# Altium footprint library CANduino_gyro.PcbLib: 19 footprints (part 1 of 2)
Each footprint in its own frame and in the unit in brackets; x right, y up, seen from the top. Pads: shape width x height; smd on the part's side, far side on the other; paste and mask are expansions set on the pad; w line width, h text height; cw(c..) or ccw(c..) is an arc to the next point about the centre after c.
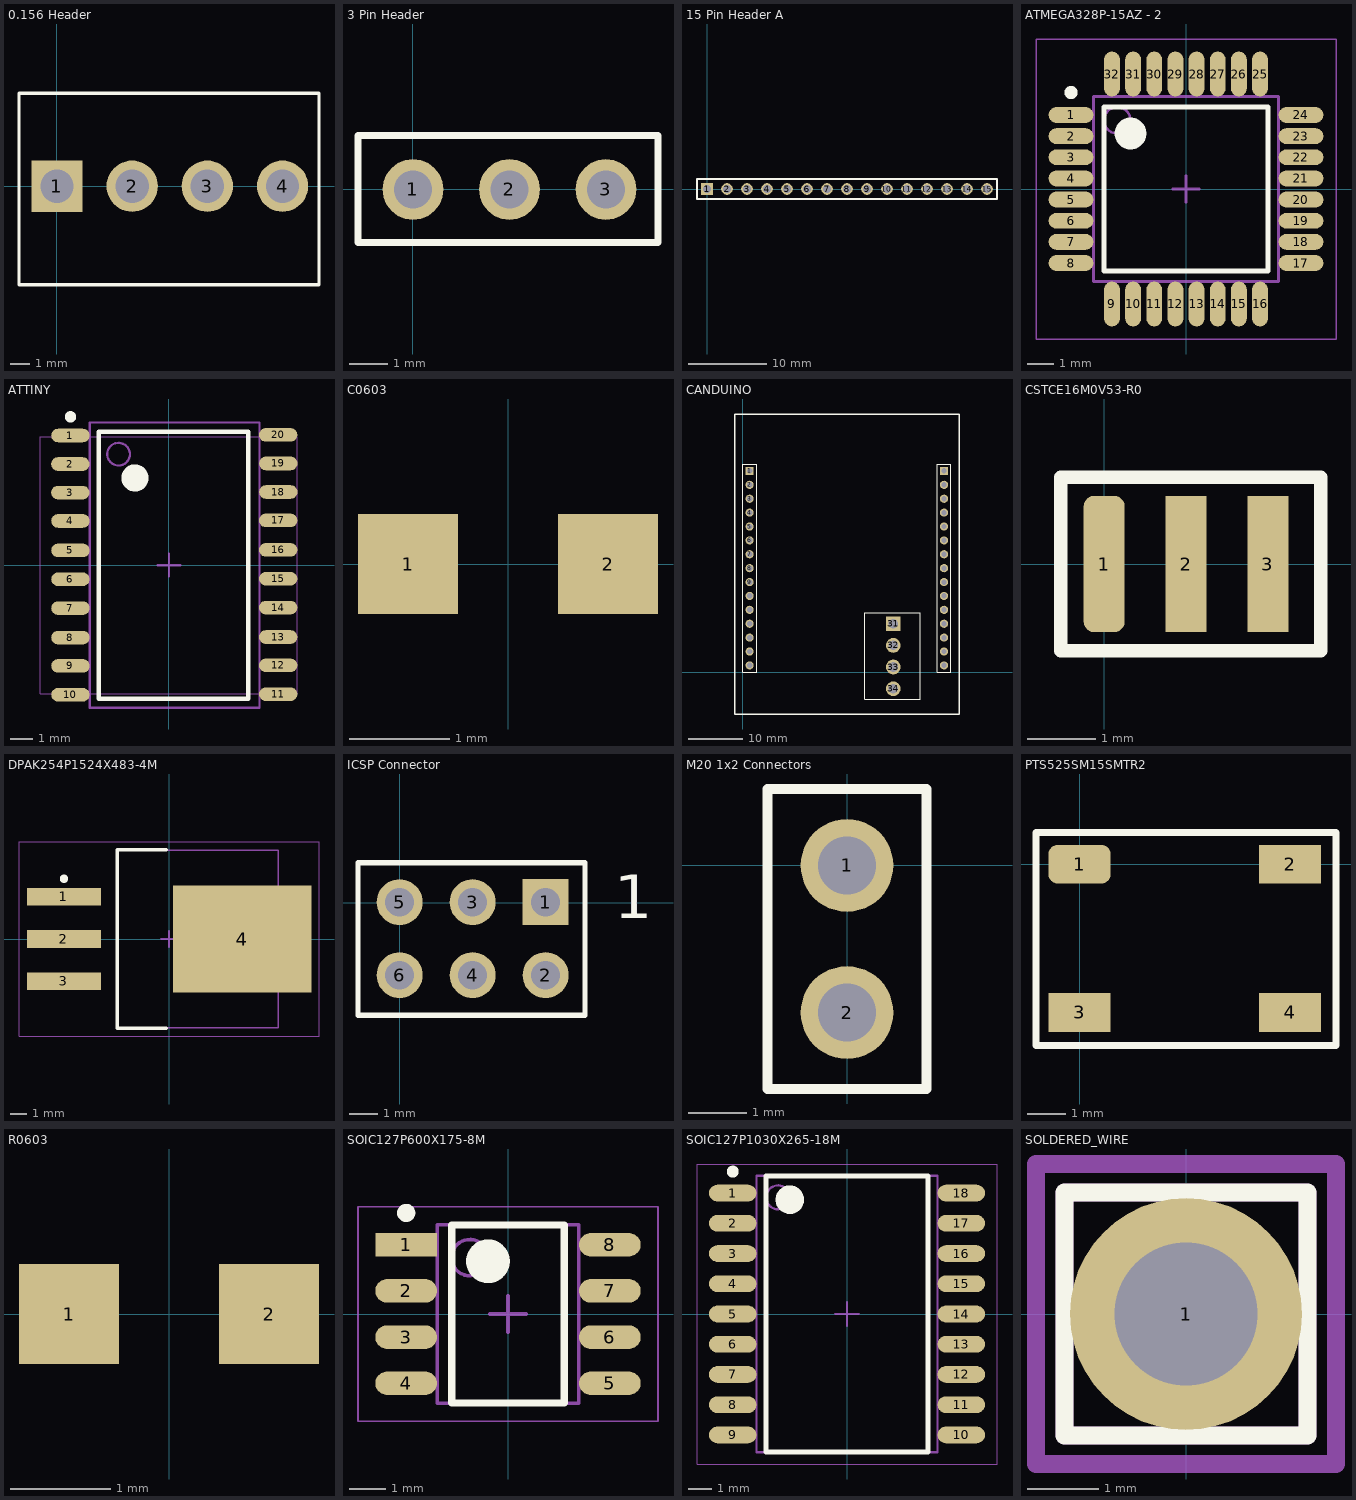
[diagram p0: the footprints below, top view; thin cyan lines are the x and y axes]

## 0.156 Header [mm]
pads (4):
  rect 2.7x2.7 / inner round 1.2 / far side rect 2.7x2.7 hole 1.75: 1(0,0)
  round 2.7 / inner round 1.2 / far side round 2.7 hole 1.75: 2(3.96,0) 3(7.92,0) 4(11.88,0)
Top Overlay:
  lines w0.178: -2,-5.2 -2,4.9 13.8,4.9 13.8,-5.2 -2,-5.2

## 3 Pin Header [mm]
pads (3):
  round 1.6 hole 1: 1(0,0) 2(2.54,0) 3(5.08,0)
Top Overlay:
  lines w0.178: -1.448,-1.397 6.452,-1.397 6.452,1.422 -1.448,1.422 -1.448,-1.397

## 15 Pin Header A [mm] "CANduino IO connections"
pads (15):
  rect 1.5x1.5 hole 1: 1(0,0)
  round 1.5 hole 1: 2(2.54,0) 3(5.08,0) 4(7.62,0) 5(10.16,0) 6(12.7,0) 7(15.24,0) 8(17.78,0) 9(20.32,0) 10(22.86,0) 11(25.4,0) 12(27.94,0) 13(30.48,0) 14(33.02,0) 15(35.56,0)
Top Overlay:
  lines w0.2: -1.27,-1.27 36.83,-1.27 36.83,1.27 0.635,1.27 -1.27,1.27 -1.27,-1.27

## ATMEGA328P-15AZ - 2 [mm] "TQFP, 32-Leads, Body 7.00x7.00mm, Pitch 0.80mm, IPC Low Density"
height 1.2
pads (32):
  oval 1.7x0.6 smd: 1(-4.35,2.8) 2(-4.35,2) 3(-4.35,1.2) 4(-4.35,0.4) 5(-4.35,-0.4) 6(-4.35,-1.2) 7(-4.35,-2) 8(-4.35,-2.8) 17(4.35,-2.8) 18(4.35,-2) 19(4.35,-1.2) 20(4.35,-0.4) 21(4.35,0.4) 22(4.35,1.2) 23(4.35,2) 24(4.35,2.8)
  oval 0.6x1.7 smd: 9(-2.8,-4.35) 10(-2,-4.35) 11(-1.2,-4.35) 12(-0.4,-4.35) 13(0.4,-4.35) 14(1.2,-4.35) 15(2,-4.35) 16(2.8,-4.35) 25(2.8,4.35) 26(2,4.35) 27(1.2,4.35) 28(0.4,4.35) 29(-0.4,4.35) 30(-1.2,4.35) 31(-2,4.35) 32(-2.8,4.35)
Top Overlay:
  circle w0.6: c-2.1,2.1 r0.3
  circle w0.25: c-4.35,3.65 r0.125
  lines w0.2: -3.1,-3.1 3.1,-3.1 3.1,3.1 -3.1,3.1 -3.1,-3.1
Mechanical 13:
  circle w0.1: c-2.6,2.6 r0.5
  lines w0.1: -3.5,-3.5 3.5,-3.5 3.5,3.5 -3.5,3.5 -3.5,-3.5
Mechanical 15:
  lines w0.05: -5.675,-5.675 5.675,-5.675 5.675,5.675 -5.675,5.675 -5.675,-5.675
  lines w0.1: -0.5,0 0.5,0 ; 0,-0.5 0,0.5
3D body: height 1.2, standoff 0.05, extent -3.5,-3.5 3.5,3.5

## ATTINY [mm] "TQFP, 32-Leads, Body 7.00x7.00mm, Pitch 0.80mm, IPC Low Density"
height 1.2
pads (20):
  oval 1.7x0.6 smd: 1(-4.35,5.725) 2(-4.355,4.465) 3(-4.355,3.205) 4(-4.35,1.95) 5(-4.35,0.65) 6(-4.35,-0.625) 7(-4.35,-1.9) 8(-4.35,-3.2) 9(-4.35,-4.45) 10(-4.35,-5.725) 11(4.825,-5.7) 12(4.825,-4.425) 13(4.825,-3.175) 14(4.825,-1.875) 15(4.825,-0.6) 16(4.825,0.675) 17(4.825,1.975) 18(4.83,3.23) 19(4.83,4.49) 20(4.825,5.75)
Top Overlay:
  circle w0.6: c-1.5,3.85 r0.3
  circle w0.25: c-4.35,6.55 r0.125
  lines w0.2: -3.1,-5.9 -3.1,5.9 3.5,5.9 3.5,-5.9 -3.1,-5.9
Mechanical 13:
  circle w0.1: c-2.225,4.9 r0.5
  lines w0.1: -3.5,-6.3 4,-6.3 4,-1.25 4,2.25 4,6.3 -3.5,6.3 -3.5,-6.3
Mechanical 15:
  lines w0.05: -5.675,-5.675 5.675,-5.675 5.675,5.675 -5.675,5.675 -5.675,-5.675
  lines w0.1: -0.5,0 0.5,0 ; 0,-0.5 0,0.5
3D body: height 1.2, standoff 0.05, extent -3.5,-6.3 4,6.3

## C0603 [mm]
pads (2):
  rect 1x1 smd: 1(-1,0) 2(1,0)

## CANDUINO [mm]
pads (34):
  rect 1.5x1.5 hole 1: 1(1.27,36.83) 30(36.83,36.83)
  round 1.5 hole 1: 2(1.27,34.29) 3(1.27,31.75) 4(1.27,29.21) 5(1.27,26.67) 6(1.27,24.13) 7(1.27,21.59) 8(1.27,19.05) 9(1.27,16.51) 10(1.27,13.97) 11(1.27,11.43) 12(1.27,8.89) 13(1.27,6.35) 14(1.27,3.81) 15(1.27,1.27) 16(36.83,1.27) 17(36.83,3.81) 18(36.83,6.35) 19(36.83,8.89) 20(36.83,11.43) 21(36.83,13.97) 22(36.83,16.51) 23(36.83,19.05) 24(36.83,21.59) 25(36.83,24.13) 26(36.83,26.67) 27(36.83,29.21) 28(36.83,31.75) 29(36.83,34.29)
  rect 2.7x2.7 / inner round 1.2 / far side rect 2.7x2.7 hole 1.75: 31(27.559,8.89)
  round 2.7 / inner round 1.2 / far side round 2.7 hole 1.75: 32(27.559,4.93) 33(27.559,0.97) 34(27.559,-2.99)
Top Overlay:
  lines w0.178: 22.359,-4.91 22.359,10.89 32.459,10.89 32.459,-4.91 22.359,-4.91
  lines w0.2: 0,0 0,38.1 2.54,38.1 2.54,36.195 2.54,0 0,0 ; 35.56,0 35.56,38.1 38.1,38.1 38.1,36.195 38.1,0 35.56,0
  lines w0.254: -1.448,-7.62 39.624,-7.62 39.624,47.244 -1.448,47.244 -1.448,-7.62

## CSTCE16M0V53-R0 [mm] "16MHz Resonator"
height 1
pads (3):
  rrect50% 0.6x2 smd: 1(0,0)
  rect 0.6x2 smd: 2(1.2,0) 3(2.4,0)
Top Overlay:
  lines w0.2: -0.635,-1.27 -0.635,-0.465 -0.635,1.27 3.175,1.27 3.175,-1.27 -0.635,-1.27

## DPAK254P1524X483-4M [mm] "D2-PAK, 4-Pads, Body 7.93x8.69mm (max), IPC Low Density"
height 4.83
pads (4):
  rect 4.45x1.05 smd: 1(-6.3,2.54) 2(-6.3,0) 3(-6.3,-2.54)
  rect 8.3x6.45 smd: 4(4.4,0)
Top Overlay:
  circle w0.25: c-6.3,3.615 r0.125
  lines w0.2: -0.15,-5.35 -3.1,-5.35 -3.1,5.35 -0.15,5.35
Mechanical 13:
  lines w0.1: -3.1,-5.325 -3.1,5.325 6.55,5.325 6.55,-5.325 -3.1,-5.325
Mechanical 15:
  lines w0.05: -9,-5.825 -9,5.825 9,5.825 9,-5.825 -9,-5.825
  lines w0.1: -0.5,0 0.5,0 ; 0,-0.5 0,0.5
3D body: height 4.83, standoff 0, extent -3.1,-5.325 6.55,5.325

## ICSP Connector [mm]
pads (6):
  rect 1.6x1.6 hole 1: 1(5.08,0.025)
  round 1.6 hole 1: 2(5.08,-2.515) 3(2.54,0.025) 4(2.54,-2.515) 5(0,0.025) 6(0,-2.515)
Top Overlay:
  lines w0.178: -1.448,-3.912 6.452,-3.912 6.452,1.397 -1.448,1.397 -1.448,-3.912
  text "1" at 7.468,-0.533 h1.52

## M20 1x2 Connectors [mm]
pads (2):
  round 1.6 hole 1: 1(0,0) 2(0,-2.54)
Top Overlay:
  lines w0.178: -1.372,-3.861 1.372,-3.861 1.372,1.321 -1.372,1.321 -1.372,-3.861

## PTS525SM15SMTR2 [mm] "Tact Switch"
pads (4):
  rrect50% 1.6x1 smd: 1(0,0)
  rect 1.6x1 smd: 2(5.4,0) 3(0,-3.8) 4(5.4,-3.8)
Top Overlay:
  lines w0.178: -1.118,-4.648 -1.118,0.813 6.579,0.813 6.579,-4.648 -1.118,-4.648

## R0603 [mm]
pads (2):
  rect 1x1 smd: 1(-1,0) 2(1,0)

## SOIC127P600X175-8M [mm] "SOIC, 8-Leads, Body 4.90x3.90mm, Pitch 1.27mm, IPC Low Density"
height 1.75
pads (8):
  rect 1.7x0.65 smd: 1(-2.8,1.905)
  oval 1.7x0.65 smd: 2(-2.8,0.635) 3(-2.8,-0.635) 4(-2.8,-1.905) 5(2.8,-1.905) 6(2.8,-0.635) 7(2.8,0.635) 8(2.8,1.905)
Top Overlay:
  circle w0.6: c-0.55,1.45 r0.3
  circle w0.25: c-2.8,2.78 r0.125
  lines w0.2: -1.55,-2.45 1.55,-2.45 1.55,2.45 -1.55,2.45 -1.55,-2.45
Mechanical 13:
  circle w0.1: c-1.05,1.55 r0.5
  lines w0.1: -1.95,-2.45 1.95,-2.45 1.95,2.45 -1.95,2.45 -1.95,-2.45
Mechanical 15:
  lines w0.05: -4.125,-2.95 4.125,-2.95 4.125,2.95 -4.125,2.95 -4.125,-2.95
  lines w0.1: -0.5,0 0.5,0 ; 0,-0.5 0,0.5
3D body: height 1.75, standoff 0.1, extent -1.95,-2.45 1.95,2.45

## SOIC127P1030X265-18M [mm] "SOIC, 18-Leads, Body 11.50x7.50mm, Pitch 1.27mm, IPC Low Density"
height 2.65
pads (18):
  oval 2x0.7 smd: 1(-4.8,5.08) 2(-4.8,3.81) 3(-4.8,2.54) 4(-4.8,1.27) 5(-4.8,0) 6(-4.8,-1.27) 7(-4.8,-2.54) 8(-4.8,-3.81) 9(-4.8,-5.08) 10(4.8,-5.08) 11(4.8,-3.81) 12(4.8,-2.54) 13(4.8,-1.27) 14(4.8,0) 15(4.8,1.27) 16(4.8,2.54) 17(4.8,3.81) 18(4.8,5.08)
Top Overlay:
  circle w0.6: c-2.4,4.8 r0.3
  circle w0.25: c-4.8,5.98 r0.125
  lines w0.2: -3.4,-5.8 3.4,-5.8 3.4,5.8 -3.4,5.8 -3.4,-5.8
Mechanical 13:
  circle w0.1: c-2.9,4.9 r0.5
  lines w0.1: -3.8,-5.8 3.8,-5.8 3.8,5.8 -3.8,5.8 -3.8,-5.8
Mechanical 15:
  lines w0.05: -6.3,-6.3 6.3,-6.3 6.3,6.3 -6.3,6.3 -6.3,-6.3
  lines w0.1: -0.5,0 0.5,0 ; 0,-0.5 0,0.5
3D body: height 2.65, standoff 0.1, extent -3.8,-5.8 3.8,5.8

## SOLDERED_WIRE [mm] "Direct connect to board"
pads (1):
  round 3.25 hole 2: 1(0,0)
Top Overlay:
  lines w0.254: -1.7,-1.7 1.7,-1.7 1.7,1.7 -1.7,1.7 -1.7,-1.7
Mechanical 13:
  lines w0.254: -1.7,-1.7 1.7,-1.7 1.7,1.7 -1.7,1.7 -1.7,-1.7
Mechanical 15:
  lines w0.254: -2.1,-2.1 -2.1,2.1 2.1,2.1 2.1,-2.1 -2.1,-2.1